# Altium integrated library INA180B2IDBVT.IntLib: 1 symbol
Pins are listed as number, name and electrical type; pins without a type are passive.

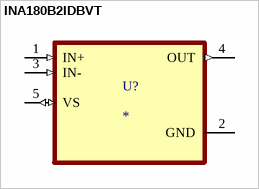
[diagram p0: symbol INA180B2IDBVT]

## INA180B2IDBVT
designator U?
26V, 350kHz current sense amplifier; MF: Texas Instruments; MP: INA180B2IDBVT; SnapEDA_Link: https://www.snapeda.com/parts/INA180B2IDBVT/Texas+Instruments/view-part/?ref=snap; Package: SOT-23-5 Texas Instruments; Value: *; Check_prices: https://www.snapeda.com/parts/INA180B2IDBVT/Texas+Instruments/view-part/?ref=eda
footprint SOT95P280X145-5N
pins: 1 IN+ (in), 2 GND (power), 3 IN- (in), 4 OUT (out), 5 VS (io)